# EAGLE library part MOD_AQM0802 (library akita)
AQM0802A, I2C character LCD
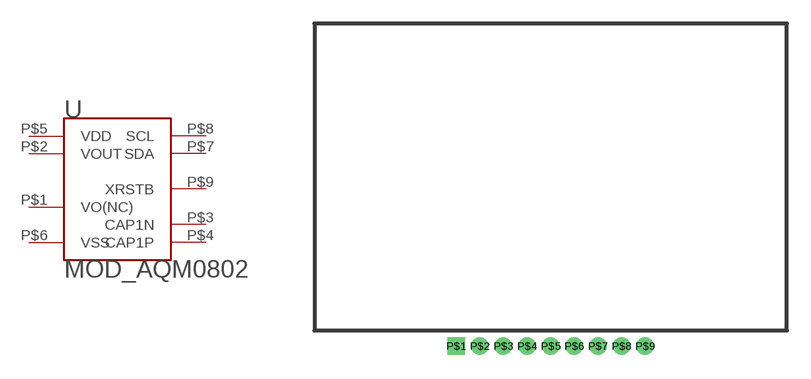
[diagram p165: symbol with the pads of MOD_AQM0802; footprint MOD_AQM0802]

Designator prefix U

## MOD_AQM0802  [MOD_AQM0802]
P$1  VO(NC)
P$2  VOUT
P$3  CAP1N
P$4  CAP1P
P$5  VDD
P$6  VSS
P$7  SDA
P$8  SCL
P$9  XRSTB

## Footprint MOD_AQM0802 (pad centres in mm)
AQM0802A, I2C character LCD
drill 0.6 square: P$1 -6,-1
drill 0.6: P$2 -4.5,-1; P$3 -3,-1; P$4 -1.5,-1; P$5 0,-1; P$6 1.5,-1; P$7 3,-1; P$8 4.5,-1; P$9 6,-1